# Altium schematic symbol library iAi_TemplateProject_4L.SchLib: 1 symbol
Pins are listed as number, name and electrical type; pins without a type are passive.

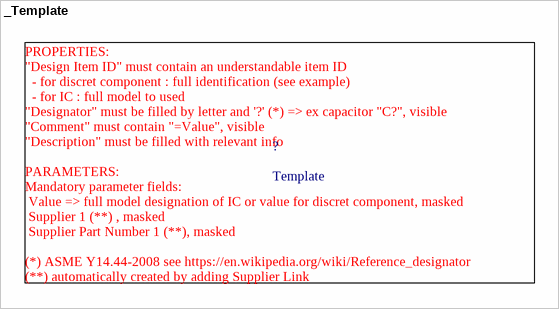
[diagram p0: symbol _Template]

## _Template
designator ?, comment Template
Template component; Value: Template
footprint _Template (Template component)
text: PROPERTIES: / "Design Item ID"	must contain an understandable item ID / - for discret component : full identification (see example) / - for IC : full model to used / "Designator"	must be filled by letter and '?' (*) => ex capacitor "C?", visible / "Comment"	must contain "=Value", visible / "Description"	must be filled with relevant info / PARAMETERS: / Mandatory parameter fields: / Value => full model designation of IC or value for discret component, masked / Supplier 1 (**) , masked / Supplier Part Number 1 (**), masked / (*) ASME Y14.44-2008 see https://en.wikipedia.org/wiki/Reference_designator / (**) automatically created by adding Supplier Link /